# Altium schematic symbol library 82_SMA-50-0-41_133_NE.SchLib: 1 symbol
Pins are listed as number, name and electrical type; pins without a type are passive.

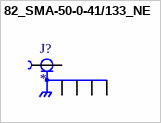
[diagram p0: symbol 82_SMA-50-0-41/133_NE]

## 82_SMA-50-0-41/133_NE
designator J?
RF Connectors / Coaxial Connectors, Straight Pcb Jack | HUBER+SUHNER 82_SMA-50-0-41/133_NE; SnapEDA_Link: https://www.snapeda.com/parts/82_SMA-50-0-41/133_NE/Huber%252BSuhner/view-part/?ref=snap; Package: None; Value: *; MF: HUBER+SUHNER; MP: 82_SMA-50-0-41/133_NE; Check_prices: https://www.snapeda.com/parts/82_SMA-50-0-41/133_NE/Huber%252BSuhner/view-part/?ref=eda
footprint HUBER+SUHNER_82_SMA-50-0-41/133_NE
pins: 1, G1 (power), G2 (power), G3 (power), G4 (power)